# Altium schematic symbol library B2B-XH-A(LF)(SN).SchLib: 1 symbol
Pins are listed as number, name and electrical type; pins without a type are passive.

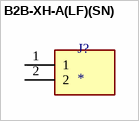
[diagram p0: symbol B2B-XH-A(LF)(SN)]

## B2B-XH-A(LF)(SN)
designator J?
Connector Header Through Hole 2 position 0.098 (2.50mm); MP: B2B-XH-A(LF)(SN); MF: JST Sales; Package: None; SnapEDA_Link: https://www.snapeda.com/parts/B2B-XH-A(LF)(SN)/JST+Sales+America+Inc./view-part/?ref=snap; Purchase-URL: https://pricing.snapeda.com/search/part/B2B-XH-A(LF)(SN)/?ref=eda; Check_prices: https://www.snapeda.com/parts/B2B-XH-A(LF)(SN)/JST+Sales+America+Inc./view-part/?ref=eda; Availability: In Stock; Value: *; Price: None
footprint JST_B2B-XH-A(LF)(SN)
pins: 1, 2